# Altium schematic symbol library Nhu-Altium-Schematic-Lin.SchLib: 75 symbols
Pins are listed as number, name and electrical type; pins without a type are passive.

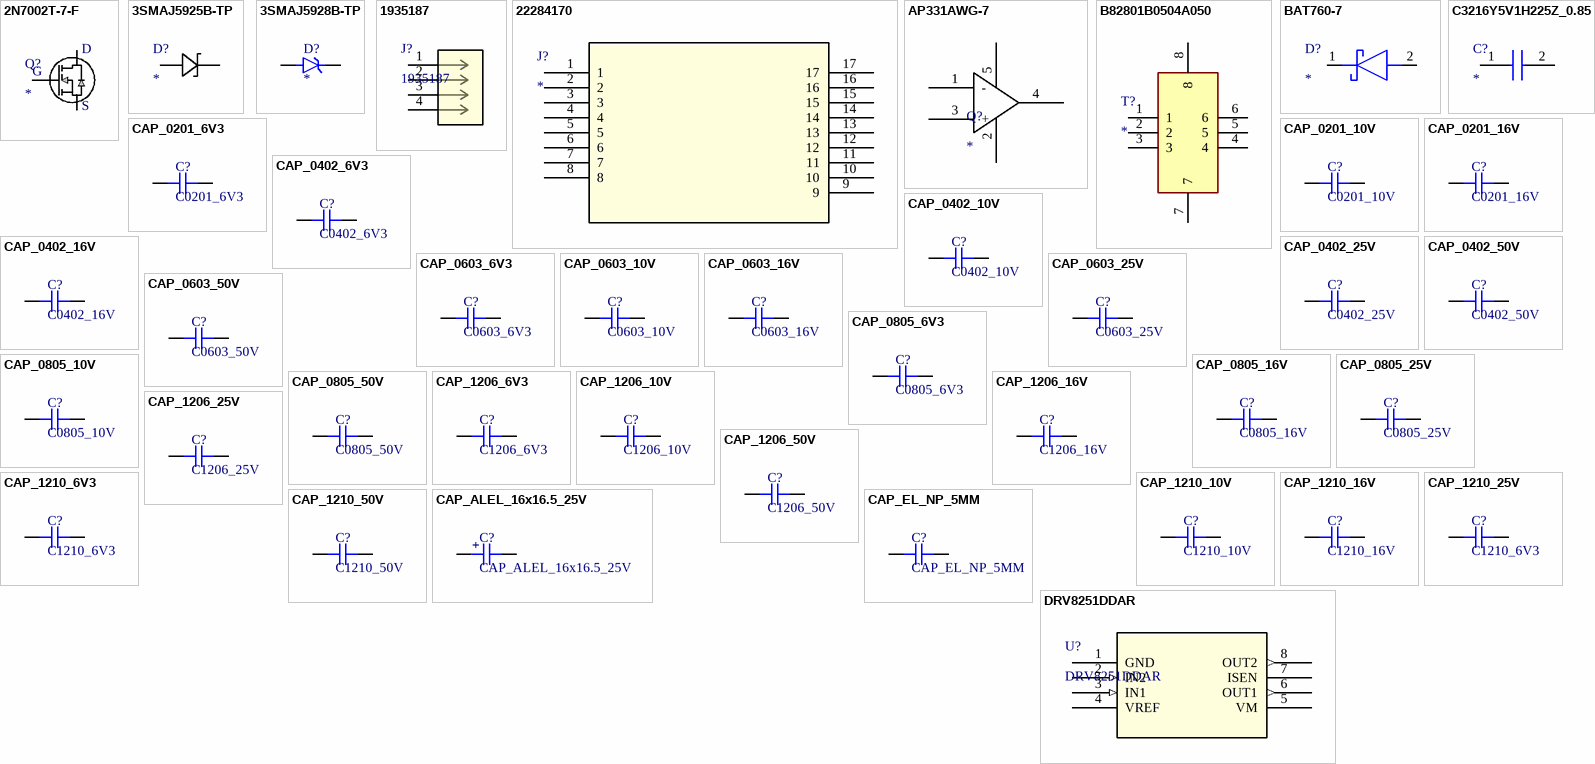
[diagram p0: symbols 2N7002T-7-F to DRV8251DDAR]

## 2N7002T-7-F
designator Q?
Small Signal Field-Effect Transistor, 0.115A I(D), 60V, 1-Element, N-Channel, Silicon, Metal-oxide Semiconductor FET; Manufacturer: ON Semiconductor / Fairchild; Manufacturer Part Number: FDN340P; Package Body Material: Plastic; Polarity/Channel Type: P-CHANNEL; Drain Current-Max (Abs) (ID): 2A; Drain-source On Resistance-Max: 70R; DS Breakdown Voltage-Min: 20V; Number of Elements: 1; Operating Mode: ENHANCEMENT MODE; Power Dissipation-Max (Abs): 500mW; Transistor Application: SWITCHING; Qualification Status: Not Qualified; Additional Feature: HIGH RELIABILITY; Feedback Cap-Max (Crss): 5pF; Time @ Peak Reflow Temperature-Max (s): 40s; Supplier 1: Arrow Electronics; RoHS: Yes; Category: MOSFETs; Stock 1: 946; Pricing 1: 1=0.1191, 10=0.1173, 25=0.1155, 100=0.1137, 250=0.112, 500=0.1102, 1000=0.1084, 3000=0.1066, 6000=0.1048 (USD); Pins: 3; Package Shape: Rectangular; Transistor Element Material: SILICON; Terminal Finish: Tin; Max Operating Temperature: 150°C; Drain Current-Max (ID): 2A; FET Technology: METAL-OXIDE SEMICONDUCTOR; JESD-30 Code: R-PDSO-G3; Moisture Sensitivity Level: 1; Package Style: SMALL OUTLINEMeter; Surface Mount: Yes; Terminal Form: Gull Wing; Terminal Position: DUAL; JESD-609 Code: e3; Reach SVHC Compliant: Yes; RoHS Compliant: Yes; ComponentLink1URL: https://datasheet.ciiva.com:443/pdfs/VipMasterIC/IC/ONSM/ONSM-S-A0003584711/ONSM-S-A0003584686-1.pdf?src-supplier=IHS+Markit; ComponentLink1Description: https://datasheet.ciiva.com:443/pdfs/VipMasterIC/IC/ONSM/ONSM-S-A0003584711/ONSM-S-A0003584686-1.pdf?src-supplier=IHS+Markit; ComponentLink2URL: https://datasheet.ciiva.com/7968/276210-7968140.pdf?src-supplier=Element14; ComponentLink2Description: https://datasheet.ciiva.com/7968/276210-7968140.pdf?src-supplier=Element14; ComponentLink3URL: https://datasheet.ciiva.com/28548/276210-28548189.pdf?src-supplier=Element14; ComponentLink3Description: https://datasheet.ciiva.com/28548/276210-28548189.pdf?src-supplier=Element14; Supplier 2: Future Electronics; Stock 2: 396000; Pricing 2: 3000=0.0523, 9000=0.0503, 15000=0.0494, 45000=0.0476, 75000=0.046 (USD); Peak Reflow Temperature (Cel): 260°C; ComponentLink4URL: https://datasheet.ciiva.com:443/pdfs/VipMasterIC/IC/DIOD/DIOD-S-A0009691157/DIOD-S-A0009831364-1.pdf?src-supplier=IHS+Markit; ComponentLink4Description: https://datasheet.ciiva.com:443/pdfs/VipMasterIC/IC/DIOD/DIOD-S-A0009691157/DIOD-S-A0009831364-1.pdf?src-supplier=IHS+Markit; ComponentLink5URL: https://datasheet.ciiva.com/34302/1538460-34302350.pdf?src-supplier=Jameco; ComponentLink5Description: https://datasheet.ciiva.com/34302/1538460-34302350.pdf?src-supplier=Jameco; ComponentLink6URL: https://datasheet.ciiva.com/3304/ds30301-3304394.pdf?src-supplier=Avnet; ComponentLink6Description: https://datasheet.ciiva.com/3304/ds30301-3304394.pdf?src-supplier=Avnet; ComponentLink7URL: https://datasheet.ciiva.com/17103/2n7002t-7-f-17103286.pdf?src-supplier=Allied+Electronics; ComponentLink7Description: https://datasheet.ciiva.com/17103/2n7002t-7-f-17103286.pdf?src-supplier=Allied+Electronics; ComponentLink8URL: https://datasheet.ciiva.com/1188/ds30301-1188477.pdf?src-supplier=Element14; ComponentLink8Description: https://datasheet.ciiva.com/1188/ds30301-1188477.pdf?src-supplier=Element14; ComponentLink9URL: https://datasheet.ciiva.com/22712/1915455-22712378.pdf?src-supplier=Element14; ComponentLink9Description: https://datasheet.ciiva.com/22712/1915455-22712378.pdf?src-supplier=Element14; ComponentLink10URL: https://datasheet.ciiva.com/3304/ds30301-3304395.pdf?src-supplier=Avnet; ComponentLink10Description: https://datasheet.ciiva.com/3304/ds30301-3304395.pdf?src-supplier=Avnet; ComponentLink11URL: https://datasheet.ciiva.com/16287/ds30301-16287372.pdf?src-supplier=Future+Electronics; ComponentLink11Description: https://datasheet.ciiva.com/16287/ds30301-16287372.pdf?src-supplier=Future+Electronics; ComponentLink12URL: https://datasheet.ciiva.com/15219/getdatasheetpartid-141065-15219671.pdf?src-supplier=Verical; ComponentLink12Description: https://datasheet.ciiva.com/15219/getdatasheetpartid-141065-15219671.pdf?src-supplier=Verical; ComponentLink13URL: https://datasheet.ciiva.com/934/ds30301-934600.pdf?src-supplier=Digi-Key; ComponentLink13Description: https://datasheet.ciiva.com/934/ds30301-934600.pdf?src-supplier=Digi-Key; ComponentLink14URL: https://datasheet.ciiva.com/934/ds30301-934601.pdf?src-supplier=Digi-Key; ComponentLink14Description: https://datasheet.ciiva.com/934/ds30301-934601.pdf?src-supplier=Digi-Key; ComponentLink15URL: https://datasheet.ciiva.com/934/ds30301-934599.pdf?src-supplier=Digi-Key; ComponentLink15Description: https://datasheet.ciiva.com/934/ds30301-934599.pdf?src-supplier=Digi-Key; Supplier Part Number 1: FDN340P; Supplier Part Number 2: 6857122
footprint 2N7002T-7-F
pins: 1 G, 2 S, 3 D

## 3SMAJ5925B-TP
designator D?
No Description Available; Mfr_Name: MCC
footprint 3SMAJ5925B-TP (Footprint not found)
pins: 1 ANODE, 2 CATHODE

## 3SMAJ5928B-TP
designator D?
MF: {'manufacturer': u'Micro Commercial Co'}; MP: 3SMAJ5928B-TP; Package: None; Price: None; Value: *; Availability: Unavailable
footprint 3SMAJ5928B-TP
pins: A, C K

## 1935187
designator J?
No Description Available; Mfr_Name: Phoenix Contact; Copyright: Copyright (C) 2023 Ultra Librarian. All rights reserved.; Manufacturer_Part_Number: 1935187; Digi-Key_Part_Number_1: 277-1579-ND; RefDes: RefDes; Type: DEV
footprint 1935187
pins: 1, 2, 3, 4

## 22284170
designator J?
No Description Available; Mfr_Name: Molex Connector Corporation; RefDes: RefDes; Type: Type
footprint 22284170
pins: 1, 2, 3, 4, 5, 6, 7, 8, 9, 10, 11, 12, 13, 14, 15, 16, 17

## AP331AWG-7
designator Q?
Transistor; Manufacturer_Name: Diodes Inc.; Manufacturer_Part_Number: AP331AWG-7; Datasheet Link: https://www.diodes.com/assets/Datasheets/AP331A.pdf; Height: 1.3mm; Mouser Part Number: 621-AP331AWG-7; Mouser Price/Stock: https://www.mouser.co.uk/ProductDetail/Diodes-Incorporated/AP331AWG-7?qs=oUsD4qhOtFwtG1biEio8Cg%3D%3D; Arrow Part Number: AP331AWG-7; Arrow Price/Stock: https://www.arrow.com/en/products/ap331awg-7/diodes-incorporated?region=nac
footprint AP331AWG-7 (Footprint not found)
pins: 1 -, 2 GND, 3 +, 4 OUT, 5

## B82801B0504A050
designator T?
Transformer; Manufacturer_Name: TDK; Manufacturer_Part_Number: B82801B0504A050; Datasheet Link: https://product.tdk.com/system/files/dam/doc/product/transformer/transformer/current-sense/data_sheet/85/ds/b82801b.pdf; Height: 5.08mm; Mouser Part Number: 871-B82801B504A50; Mouser Price/Stock: https://www.mouser.co.uk/ProductDetail/EPCOS-TDK/B82801B0504A050?qs=Uha62PnlbFB0KmwTvQRwvw%3D%3D
footprint B82801B0504A050
pins: 1, 2, 3, 4, 5, 6, 7, 8

## BAT760-7
designator D?
Schottky Diode; Manufacturer_Name: Diodes Inc.; Manufacturer_Part_Number: BAT760-7; Datasheet Link: https://www.diodes.com/assets/Datasheets/ds30498.pdf; Height: 1.2mm; Mouser Part Number: 621-BAT760-7; Mouser Price/Stock: https://www.mouser.co.uk/ProductDetail/Diodes-Incorporated/BAT760-7?qs=JV7lzlMm3yKDDyO09xoRbQ%3D%3D; Arrow Part Number: BAT760-7; Arrow Price/Stock: https://www.arrow.com/en/products/bat760-7/diodes-incorporated?region=nac
footprint BAT760-7 (Footprint not found)
pins: 1 K, 2 A

## C3216Y5V1H225Z_0.85
designator C?
Capacitor; Manufacturer_Name: TDK; Manufacturer_Part_Number: C3216Y5V1H225Z/0.85; Description: Multilayer Ceramic Capacitors MLCC - SMD/SMT 1206 2.2uF 50V Y5V +80/-20%; Datasheet Link: https://media.digikey.com/pdf/Data%20Sheets/TDK%20PDFs/C_Series_GeneralAppl_B11.pdf; Height: 0.95mm; Mouser Part Number: N/A
footprint C3216Y5V1H225Z_0.85 (Footprint not found)
pins: 1, 2

## CAP_0201_6V3
designator C?, comment C0201_6V3
Capacitor SMD 0201 6V3
footprint CAP_0201
pins: 1, 2

## CAP_0201_10V
designator C?, comment C0201_10V
Capacitor SMD 0201 10V
footprint CAP_0201
pins: 1, 2

## CAP_0201_16V
designator C?, comment C0201_16V
Capacitor SMD 0201 16V
footprint CAP_0201
pins: 1, 2

## CAP_0402_6V3
designator C?, comment C0402_6V3
Capacitor SMD 0402 6V3
footprint CAP_0402
pins: 1, 2

## CAP_0402_10V
designator C?, comment C0402_10V
Capacitor SMD 0402 10V
footprint CAP_0402
pins: 1, 2

## CAP_0402_16V
designator C?, comment C0402_16V
Capacitor SMD 0402 16V
footprint CAP_0402
pins: 1, 2

## CAP_0402_25V
designator C?, comment C0402_25V
Capacitor SMD 0402 25V
footprint CAP_0402
pins: 1, 2

## CAP_0402_50V
designator C?, comment C0402_50V
Capacitor SMD 0402 50V
footprint CAP_0402
pins: 1, 2

## CAP_0603_6V3
designator C?, comment C0603_6V3
Capacitor SMD 0603 6V3
footprint CAP_0603
pins: 1, 2

## CAP_0603_10V
designator C?, comment C0603_10V
Capacitor SMD 0603 10V
footprint CAP_0603
pins: 1, 2

## CAP_0603_16V
designator C?, comment C0603_16V
Capacitor SMD 0603 16V
footprint CAP_0603
pins: 1, 2

## CAP_0603_25V
designator C?, comment C0603_25V
Capacitor SMD 0603 25V
footprint CAP_0603
pins: 1, 2

## CAP_0603_50V
designator C?, comment C0603_50V
Capacitor SMD 0603 50V
footprint CAP_0603
pins: 1, 2

## CAP_0805_6V3
designator C?, comment C0805_6V3
Capacitor SMD 0805 6V3
footprint CAP_0805
pins: 1, 2

## CAP_0805_10V
designator C?, comment C0805_10V
Capacitor SMD 0805 10V
footprint CAP_0805
pins: 1, 2

## CAP_0805_16V
designator C?, comment C0805_16V
Capacitor SMD 0805 16V
footprint CAP_0805
pins: 1, 2

## CAP_0805_25V
designator C?, comment C0805_25V
Capacitor SMD 0805 25V
footprint CAP_0805
pins: 1, 2

## CAP_0805_50V
designator C?, comment C0805_50V
Capacitor SMD 0805 50V
footprint CAP_0805
pins: 1, 2

## CAP_1206_6V3
designator C?, comment C1206_6V3
Capacitor SMD 1206 6V3
footprint CAP_1206
pins: 1, 2

## CAP_1206_10V
designator C?, comment C1206_10V
Capacitor SMD 1206 10V
footprint CAP_1206
pins: 1, 2

## CAP_1206_16V
designator C?, comment C1206_16V
Capacitor SMD 1206 16V
footprint CAP_1206
pins: 1, 2

## CAP_1206_25V
designator C?, comment C1206_25V
Capacitor SMD 1206 25V
footprint CAP_1206
pins: 1, 2

## CAP_1206_50V
designator C?, comment C1206_50V
Capacitor SMD 1206 50V
footprint CAP_1206
pins: 1, 2

## CAP_1210_6V3
designator C?, comment C1210_6V3
Capacitor SMD 1210 6V3
footprint CAP_1210
pins: 1, 2

## CAP_1210_10V
designator C?, comment C1210_10V
Capacitor SMD 1210 10V
footprint CAP_1210
pins: 1, 2

## CAP_1210_16V
designator C?, comment C1210_16V
Capacitor SMD 1210 16V
footprint CAP_1210
pins: 1, 2

## CAP_1210_25V
designator C?, comment C1210_6V3
Capacitor SMD 1210 25V
footprint CAP_1210
pins: 1, 2

## CAP_1210_50V
designator C?, comment C1210_50V
Capacitor SMD 1210 50V
footprint CAP_1210
pins: 1, 2

## CAP_ALEL_16x16.5_25V
designator C?
Capacitor SMD Aluminium Electrolytic 16x16.5mm 25V; Manufacturer: *; Manufacturer Part Number: *
footprint CAP_ALEL_16x16.5 (Aluminum Electrolytic Capacitor, Body 17.00x17.00x17.00mm, IPC Low Density)
pins: 1, 2
text: +

## CAP_EL_NP_5MM
designator C?
Capacitor SMD Electrolytic Non-Polarised 5mm Diameter; Manufacturer: Nichicon; Manufacturer Part Number: *
footprint CAP-EL-NP-5MM
pins: 1, 2

## DRV8251DDAR
designator U?
No Description Available; Mfr_Name: Texas Instruments; Copyright: Copyright (C) 2023 Ultra Librarian. All rights reserved.; Manufacturer_Part_Number: DRV8251DDAR; RefDes: RefDes; Type: DEV
footprint DRV8251DDAR
pins: 1 GND, 2 IN2 (in), 3 IN1 (in), 4 VREF (power), 5 VM (power), 6 OUT1 (out), 7 ISEN (power), 8 OUT2 (out)

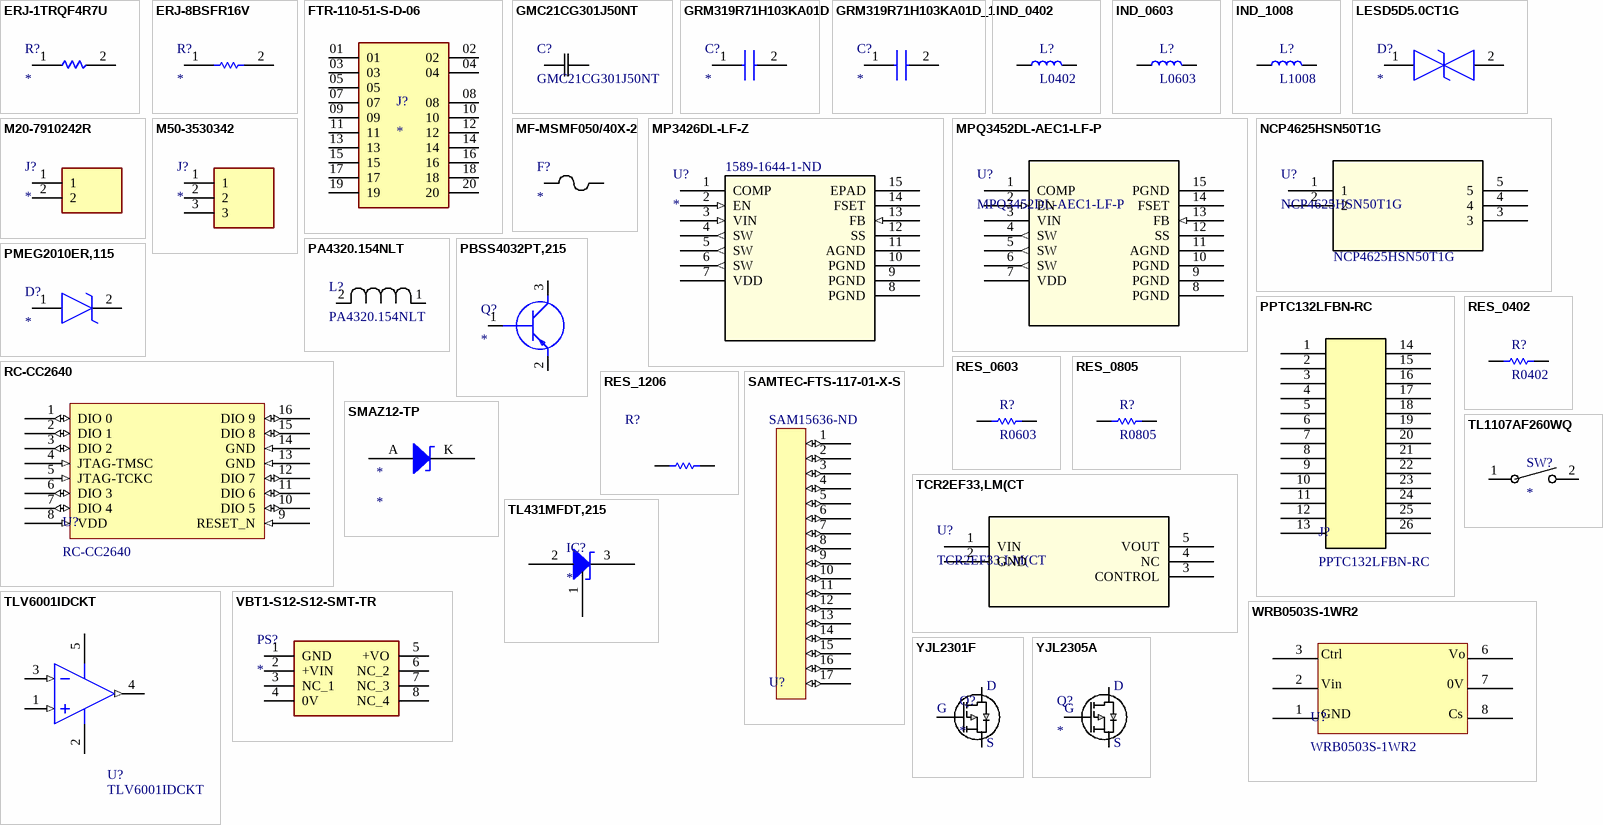
[diagram p1: symbols ERJ-1TRQF4R7U to YJL2305A]

## ERJ-1TRQF4R7U
designator R?
Resistor; Manufacturer_Name: Panasonic; Manufacturer_Part_Number: ERJ-1TRQF4R7U; Description: SMD Current Sense Resistor; Datasheet Link: http://industrial.panasonic.com/cdbs/www-data/pdf/RDN0000/AOA0000C313.pdf; Height: 0.7mm; Mouser Part Number: 667-ERJ-1TRQF4R7U
footprint ERJ-1TRQF4R7U (Footprint not found)
pins: 1, 2

## ERJ-8BSFR16V
designator R?
Resistor; Manufacturer_Name: Panasonic; Manufacturer_Part_Number: ERJ-8BSFR16V; Datasheet Link: http://industrial.panasonic.com/cdbs/www-data/pdf/RDN0000/AOA0000C313.pdf; Mouser Part Number: 667-ERJ-8BSFR16V; Mouser Price/Stock: https://www.mouser.co.uk/ProductDetail/Panasonic/ERJ-8BSFR16V?qs=22lEN67Lqx5wXmxto%252Be%252B6g%3D%3D
footprint ERJ-8BSFR16V
pins: 1, 2

## FTR-110-51-S-D-06
designator J?
MP: FTR-110-51-S-D-06; Price: None; Value: *; Availability: Unavailable; Package: None
footprint FTR-110-51-S-D-06
pins: 01, 02, 03, 04, 05, 07, 08, 09, 10, 11, 12, 13, 14, 15, 16, 17, 18, 19, 20

## GMC21CG301J50NT
designator C?
No Description Available; Mfr_Name: Cal-Chip Electronics; Type: DEV; Copyright: Copyright (C) 2023 Ultra Librarian. All rights reserved.; Manufacturer_Part_Number: GMC21CG301J50NT; RefDes: RefDes
footprint CAP_GMC21_1.40H_CCE
pins: 1, 2

## GRM319R71H103KA01D
designator C?
Capacitor; Manufacturer_Name: Murata Electronics; Manufacturer_Part_Number: GRM319R71H103KA01D; Datasheet Link: http://www.murata.com/~/media/webrenewal/support/library/catalog/products/capacitor/mlcc/c02e.pdf; Height: 0.95mm; Mouser Part Number: 81-GRM319R71H103KA01; Mouser Price/Stock: https://www.mouser.co.uk/ProductDetail/Murata-Electronics/GRM319R71H103KA01D?qs=08Y8fPBudVrSpjDy94KL5Q%3D%3D; Arrow Part Number: GRM319R71H103KA01D; Arrow Price/Stock: https://www.arrow.com/en/products/grm319r71h103ka01d/murata-manufacturing
footprint GRM319R71H103KA01D (Footprint not found)
pins: 1, 2

## GRM319R71H103KA01D_1
designator C?
Capacitor; Manufacturer_Name: Murata Electronics; Manufacturer_Part_Number: GRM319R71H103KA01D; Datasheet Link: http://www.murata.com/~/media/webrenewal/support/library/catalog/products/capacitor/mlcc/c02e.pdf; Height: 0.95mm; Mouser Part Number: 81-GRM319R71H103KA01; Mouser Price/Stock: https://www.mouser.co.uk/ProductDetail/Murata-Electronics/GRM319R71H103KA01D?qs=08Y8fPBudVrSpjDy94KL5Q%3D%3D; Arrow Part Number: GRM319R71H103KA01D; Arrow Price/Stock: https://www.arrow.com/en/products/grm319r71h103ka01d/murata-manufacturing
footprint CAPC3216X95N
pins: 1, 2

## IND_0402
designator L?, comment L0402
Inductor SMD 0402
footprint IND_0402 (Footprint not found)
pins: 1, 2

## IND_0603
designator L?, comment L0603
Inductor SMD 0603
footprint IND_0603 (Footprint not found)
pins: 1, 2

## IND_1008
designator L?, comment L1008
Inductor SMD 1008
footprint IND_1008 (Footprint not found)
pins: 1, 2

## LESD5D5.0CT1G
designator D?
TVS Diode (Bi-directional); Manufacturer_Name: LRC; Manufacturer_Part_Number: LESD5D5.0CT1G; Height: 0.7mm
footprint LESD5D50CT1G
pins: 1, 2

## M20-7910242R
designator J?
Connector; Manufacturer_Name: Harwin; Manufacturer_Part_Number: M20-7910242R; Datasheet Link: https://www.mouser.com/datasheet/2/181/M20-791R-1273555.pdf; Height: 2.5mm; Mouser Part Number: 855-M20-7910242R; Mouser Price/Stock: https://www.mouser.co.uk/ProductDetail/Harwin/M20-7910242R?qs=k41KVqW3ympOgmj181bijA%3D%3D
footprint M20-7910242R
pins: 1, 2

## M50-3530342
designator J?
Connector; Manufacturer_Name: Harwin; Manufacturer_Part_Number: M50-3530342; Datasheet Link: https://cdn.harwin.com/pdfs/M50-353.pdf; Height: 4.3mm; Mouser Part Number: 855-M50-3530342; Mouser Price/Stock: https://www.mouser.co.uk/ProductDetail/Harwin/M50-3530342?qs=%252BdQmOuGyFcFOxjGK%2F4HnAg%3D%3D
footprint M50-3530342
pins: 1, 2, 3

## MF-MSMF050/40X-2
designator F?
PTC Resettable Fuse, 40V, Surface Mount; Mfr_Name: Bourns Electronics; Manufacturer: Bourns; Manufacturer Part Number: MF-MSMF050/40X-2; Supplier 1: Newark; RoHS: Yes; Category: PTC Resettable Fuses; Stock 1: 6791; Pricing 1: 1=0.246, 25=0.246, 50=0.246, 100=0.225, 250=0.225, 500=0.225 (USD); Resistor Type: PTC RESETTABLE FUSE; Reach SVHC Compliant: Yes; RoHS Compliant: Yes; ComponentLink1URL: https://datasheet.ciiva.com:443/pdfs/VipMasterIC/IC/BOUR/BOUR-S-A0007011521/BOUR-S-A0007011521-1.pdf?src-supplier=IHS+Markit; ComponentLink1Description: https://datasheet.ciiva.com:443/pdfs/VipMasterIC/IC/BOUR/BOUR-S-A0007011521/BOUR-S-A0007011521-1.pdf?src-supplier=IHS+Markit; Supplier Part Number 1: 52AC4891
footprint MF-MSMF050/40X-2 (Footprint not found)
pins: 1, 2

## MP3426DL-LF-Z
designator U?  Supplier Part Number 1: 1589-1644-1-ND
Switching Regulator, Current-mode, 630kHz Switching Freq-Max, PDSO14; Mfr_Name: Monolithic Power Systems; Manufacturer Part Number: MP3426DL-LF-Z; Package Body Material: Plastic; Control Technique: PULSE WIDTH MODULATION; Max Input Voltage: 22V; Min Input Voltage: 3.2V; Nominal Input Voltage: 5V; Number of Functions: 1; Switcher Configuration: BOOST; Time @ Peak Reflow Temperature-Max (s): 40s; RefDes: RefDes; Type: Type; Supplier 1: Digi-Key; Manufacturer: Monolithic Power Systems; RoHS: Yes; Category: Voltage Regulators - Switching; Stock 1: 481; Pricing 1: 1=4.49, 10=4.036, 25=3.816, 100=3.3072, 250=3.1376, 500=2.81536, 1000=2.4 (USD); Package Code: HVSON; Number of Pins: 14; Package Shape: Rectangular; Terminal Finish: Tin; Min Operating Temperature: -40°C; Max Operating Temperature: 85°C; JESD-609 Code: e3; Analog IC - Other Type: SWITCHING REGULATOR; Control Mode: CURRENT-MODE; Moisture Sensitivity Level: 1; Package Style: SMALL OUTLINE, HEAT SINK/SLUG, VERY THIN PROFILEMeter; Peak Reflow Temperature (Cel): 260°C; Surface Mount: Yes; Switching Frequency-Max: 630kHz; Terminal Form: No Lead; Terminal Position: DUAL; Length: 4mm; Width: 3mm; Height - Seated (Max): 1mm; Terminal Pitch: 0.5mm; Reach SVHC Compliant: Yes; RoHS Compliant: Yes; Temperature Grade: INDUSTRIAL; ComponentLink1URL: https://datasheet.ciiva.com:443/pdfs/VipMasterIC/IC/MONO/MONO-S-A0009032079/MONO-S-A0009032079-1.pdf?src-supplier=IHS+Markit; ComponentLink1Description: https://datasheet.ciiva.com:443/pdfs/VipMasterIC/IC/MONO/MONO-S-A0009032079/MONO-S-A0009032079-1.pdf?src-supplier=IHS+Markit; ComponentLink2URL: http://www.mouser.com/ds/2/277/MP3426_r1.11-371611.pdf?src-supplier=Mouser; ComponentLink2Description: http://www.mouser.com/ds/2/277/MP3426_r1.11-371611.pdf?src-supplier=Mouser; ComponentLink3URL: https://www.monolithicpower.com/pub/media/document/MP3426_r1.11.pdf?src-supplier=Digi-Key; ComponentLink3Description: https://www.monolithicpower.com/pub/media/document/MP3426_r1.11.pdf?src-supplier=Digi-Key; ComponentLink4URL: http://www.monolithicpower.com/DesktopModules/DocumentManage/API/Document/getDocument?id=896&src-supplier=Digi-Key; ComponentLink4Description: http://www.monolithicpower.com/DesktopModules/DocumentManage/API/Document/getDocument?id=896&src-supplier=Digi-Key; ComponentLink5URL: https://www.monolithicpower.com/Page/DownLoad.aspx?ListID=5ef183e9-1065-446e-b3af-7c4794c517db&&ItemID=23&src-supplier=Avnet; ComponentLink5Description: https://www.monolithicpower.com/Page/DownLoad.aspx?ListID=5ef183e9-1065-446e-b3af-7c4794c517db&&ItemID=23&src-supplier=Avnet
footprint MP3426DL-LF-Z
pins: 1 COMP, 2 EN (in), 3 VIN (in), 4 SW (out), 5 SW (out), 6 SW (out), 7 VDD (power), 8 PGND (power), 9 PGND (power), 10 PGND (power), 11 AGND (power), 12 SS, 13 FB (in), 14 FSET, 15 EPAD

## MPQ3452DL-AEC1-LF-P
designator U?
No Description Available; Mfr_Name: Monolithic Power Systems; Copyright: Copyright (C) 2022 Ultra Librarian. All rights reserved.; Manufacturer_Part_Number: MPQ3452DL-AEC1-LF-P; RefDes: RefDes; Type: DEV
footprint MPQ3452DL-AEC1-LF-P
pins: 1 COMP, 2 EN (in), 3 VIN (power), 4 SW (out), 5 SW (out), 6 SW (out), 7 VDD (power), 8 PGND (power), 9 PGND (power), 10 PGND (power), 11 AGND (power), 12 SS, 13 FB (in), 14 FSET, 15 PGND (power)

## NCP4625HSN50T1G
designator U?
Fixed Positive LDO Regulator, 5V, 0.75V Dropout, PDSO5; Mfr_Name: onsemi; Manufacturer: ON Semiconductor; Package Body Material: Plastic; Regulator Type: ADJUSTABLE POSITIVE SINGLE OUTPUT LDO REGULATOR; Qualification Status: Not Qualified; Copyright: Copyright (C) 2023 Ultra Librarian. All rights reserved.; Manufacturer_Part_Number: NCP4625HSN50T1G; RefDes: RefDes; Type: DEV; Supplier 1: Arrow Electronics; Manufacturer Part Number: NCP4625HSN50T1G; RoHS: Yes; Category: Voltage Regulators - Linear; Stock 1: 33; Pricing 1: 1=0.34940, 10=0.32670, 25=0.32180 (USD); Number of Pins: 5; Package Shape: Rectangular; Terminal Finish: Tin; JESD-609 Code: e3; JESD-30 Code: R-PDSO-G5; Moisture Sensitivity Level: 1; Package Style: SMALL OUTLINEMeter; Surface Mount: Yes; Terminal Form: Gull Wing; Terminal Position: DUAL; Reach SVHC Compliant: Yes; RoHS Compliant: Yes; ComponentLink1URL: https://datasheet.ciiva.com:443/pdfs/VipMasterIC/IC/ONSM/ONSMS21698/ONSMS21698-1.pdf?src-supplier=IHS+Markit; ComponentLink1Description: https://datasheet.ciiva.com:443/pdfs/VipMasterIC/IC/ONSM/ONSMS21698/ONSMS21698-1.pdf?src-supplier=IHS+Markit; ComponentLink2URL: https://datasheet.ciiva.com/8231/ncp4625-d-8231200.pdf?src-supplier=Avnet; ComponentLink2Description: https://datasheet.ciiva.com/8231/ncp4625-d-8231200.pdf?src-supplier=Avnet; ComponentLink3URL: https://datasheet.ciiva.com/2049/ncp4625-d-2049630.pdf?src-supplier=Digi-Key; ComponentLink3Description: https://datasheet.ciiva.com/2049/ncp4625-d-2049630.pdf?src-supplier=Digi-Key; ComponentLink4URL: https://datasheet.ciiva.com/2049/ncp4625-d-2049631.pdf?src-supplier=Digi-Key; ComponentLink4Description: https://datasheet.ciiva.com/2049/ncp4625-d-2049631.pdf?src-supplier=Digi-Key; ComponentLink5URL: https://datasheet.ciiva.com/2049/ncp4625-d-2049632.pdf?src-supplier=Digi-Key; ComponentLink5Description: https://datasheet.ciiva.com/2049/ncp4625-d-2049632.pdf?src-supplier=Digi-Key; Supplier Part Number 1: NCP4625HSN50T1G
footprint NCP4625HSN50T1G
pins: 1, 2, 3, 4, 5

## PA4320.154NLT
designator L?
No Description Available; Mfr_Name: Pulse Electronics Corporation; Type: DEV; Copyright: Copyright (C) 2023 Ultra Librarian. All rights reserved.; Manufacturer_Part_Number: PA4320.154NLT; RefDes: RefDes
footprint PA4320.154NLT
pins: 1, 2

## PBSS4032PT,215
designator Q?
Transistor BJT PNP; Manufacturer_Name: Nexperia; Manufacturer_Part_Number: PBSS4032PT,215; Datasheet Link: https://assets.nexperia.com/documents/data-sheet/PBSS4032PT.pdf; Height: 1.1mm; Mouser Part Number: 771-PBSS4032PT215; Mouser Price/Stock: https://www.mouser.co.uk/ProductDetail/Nexperia/PBSS4032PT215?qs=5DYmZrWuUErjmhvQ25e5Aw%3D%3D; Arrow Part Number: PBSS4032PT,215; Arrow Price/Stock: https://www.arrow.com/en/products/pbss4032pt215/nexperia?region=nac
footprint PBSS4032PT,215
pins: 1 B, 2 E, 3 C

## PMEG2010ER,115
designator D?
DIODE SCHOTTKY 20V 1A SOD123W; Manufacturer: Nexperia; Manufacturer Part Number: PMEG2010ER,115; Package Body Material: Plastic; Diode Element Material: SILICON; Diode Type: RECTIFIER; Number of Elements: 1; Max Power Dissipation: 570mW; Time @ Peak Reflow Temperature-Max (s): 30s; Reference Standard: AEC-Q101; Supplier 1: Future Electronics; RoHS: Yes; Category: Rectifier Diodes; Stock 1: 417000; Pricing 1: 3000=0.0658, 9000=0.0633, 15000=0.0621, 30000=0.0606, 60000=0.0583 (USD); Pins: 2; Package Shape: Rectangular; Terminal Finish: Tin; Min Operating Temperature: -55°C; Max Operating Temperature: 150°C; JESD-609 Code: e3; Package Style: SMALL OUTLINEMeter; JESD-30 Code: R-PDSO-F2; Moisture Sensitivity Level: 1; Surface Mount: Yes; Technology: SCHOTTKY; Terminal Form: Flat; Terminal Position: DUAL; Peak Reflow Temperature (Cel): 260°C; Rep Pk Reverse Voltage-Max: 20V; RoHS Compliant: Yes; Reach SVHC Compliant: No; ComponentLink1URL: https://datasheet.ciiva.com:443/pdfs/VipMasterIC/IC/NEXP/NEXP-S-A0002907121/NEXP-S-A0002907121-1.pdf?src-supplier=IHS+Markit; ComponentLink1Description: https://datasheet.ciiva.com:443/pdfs/VipMasterIC/IC/NEXP/NEXP-S-A0002907121/NEXP-S-A0002907121-1.pdf?src-supplier=IHS+Markit; ComponentLink2URL: http://www.farnell.com/datasheets/1383341.pdf?src-supplier=Farnell; ComponentLink2Description: http://www.farnell.com/datasheets/1383341.pdf?src-supplier=Farnell; ComponentLink3URL: http://www.farnell.com/datasheets/1383341.pdf?src-supplier=Element14; ComponentLink3Description: http://www.farnell.com/datasheets/1383341.pdf?src-supplier=Element14; Supplier Part Number 1: 7040635
footprint PMEG2010ER,115
pins: 1, 2

## PPTC132LFBN-RC
designator J?
footprint PPTC132LFBN-RC (CONN HDR 26POS 0.1 TIN PCB)
pins: 1 (oc), 2, 3, 4, 5, 6, 7, 8, 9, 10, 11, 12, 13, 14, 15, 16, 17, 18, 19, 20, 21, 22, 23, 24, 25, 26

## RC-CC2640
designator U?
footprint RC-CC2640 (Bluetooth v4.2 Bluetooth v5.0 Transceiver Module)
pins: 1 DIO 0 (io), 2 DIO 1 (io), 3 DIO 2 (io), 4 JTAG-TMSC (in), 5 JTAG-TCKC (in), 6 DIO 3 (io), 7 DIO 4 (io), 8 VDD (in), 9 RESET_N (in), 10 DIO 5 (io), 11 DIO 6 (io), 12 DIO 7 (io), 13 GND (in), 14 GND (in), 15 DIO 8 (io), 16 DIO 9 (io)

## RES_0402
designator R?, comment R0402
Resistor SMD 0402; Manufacturer: *; Manufacturer Part Number: *; Distributor Link: *
footprint RES_0402
pins: 1, 2

## RES_0603
designator R?, comment R0603
Resistor SMD 0603; Manufacturer: *; Manufacturer Part Number: *; Distributor Link: *
footprint RES_0603
pins: 1, 2

## RES_0805
designator R?, comment R0805
Resistor SMD 0805; Manufacturer: *; Manufacturer Part Number: *; Distributor Link: *
footprint RES_0805
pins: 1, 2

## RES_1206
designator R?  (value not drawn)
Generic Resistor SMD 1206; Resistance: *Ω
footprint RES_1206 (Chip Resistor SMD 1206)
pins: 1, 2
1 alternate drawing of the same symbol

## SAMTEC-FTS-117-01-X-S
designator U?  Supplier Part Number 1: SAM15636-ND  (hidden comment: *)
Board Connector, 17 Contact(s), 1 Row(s), Male, Straight, Solder Terminal; Manufacturer: Samtec; Manufacturer Part Number: FTS-117-01-F-S; Manufacturer Series: FTS; Option: General Purpose; Additional Feature: Low Profile; Filter Feature: No; Number of Rows Loaded: 1; Number of Contacts: 17; Supplier 1: Digi-Key; RoHS: Yes; Category: Connectors; Stock 1: 137; Pricing 1: 1=3.71, 10=3.37, 100=2.9694, 500=2.524, 1000=2.15282, 5000=1.93011 (USD); Mounting Technology: Board; Contact Material: Bronze; Contact Finish - Mating: GOLD (3) OVER NICKEL (50); Contact Finish - Termination: Matte Tin (Sn) - with Nickel (Ni) barrier; Connector Type: BOARD CONNECTOR; JESD-609 Code: e3; Contact Gender: Male; Mixed Contacts: No; Mounting Style: STRAIGHT; Termination: Solder; Terminal Pitch: 1.27mm; Flammability Rating: UL94 V-0; DIN Conformance: No; IEC Conformance: No; MIL Conformance: No; Reach SVHC Compliant: Yes; RoHS Compliant: Yes; ComponentLink1URL: https://datasheet.ciiva.com:443/pdfs/VipMasterIC/IC/SAMI/SAMI-S-A0001504673/SAMI-S-A0001504673-1.pdf?src-supplier=IHS+Markit; ComponentLink1Description: https://datasheet.ciiva.com:443/pdfs/VipMasterIC/IC/SAMI/SAMI-S-A0001504673/SAMI-S-A0001504673-1.pdf?src-supplier=IHS+Markit; ComponentLink2URL: http://www.farnell.com/datasheets/2045594.pdf?src-supplier=Farnell; ComponentLink2Description: http://www.farnell.com/datasheets/2045594.pdf?src-supplier=Farnell; ComponentLink3URL: ftp://ftp.samtec.com/webfiles/PDF/FTS.PDF?src-supplier=Avnet; ComponentLink3Description: ftp://ftp.samtec.com/webfiles/PDF/FTS.PDF?src-supplier=Avnet
footprint SAMTEC-FTS-117-01-X-S
pins: 1 (io), 2 (io), 3 (io), 4 (io), 5 (io), 6 (io), 7 (io), 8 (io), 9 (io), 10 (io), 11 (io), 12 (io), 13 (io), 14 (io), 15 (io), 16 (io), 17 (io)

## SMAZ12-TP
designator *
footprint SMAZ12-TP
pins: A, K

## TCR2EF33,LM(CT
designator U?
No Description Available; Mfr_Name: Toshiba Electronic Devices & Storage Corp.; Copyright: Copyright (C) 2023 Ultra Librarian. All rights reserved.; Manufacturer_Part_Number: TCR2EF33,LM(CT; RefDes: RefDes; Type: DEV
footprint TCR2EF33,LM_CT
pins: 1 VIN (power), 2 GND, 3 CONTROL, 4 NC, 5 VOUT (power)

## TL431MFDT,215
designator IC?
Integrated Circuit; Manufacturer_Name: Nexperia; Manufacturer_Part_Number: TL431MFDT,215; Datasheet Link: https://assets.nexperia.com/documents/data-sheet/TL431_FAM.pdf; Height: 1.1mm; Mouser Part Number: 771-TL431MFDT215; Mouser Price/Stock: https://www.mouser.co.uk/ProductDetail/Nexperia/TL431MFDT215?qs=A1cBxND5mHKvFzVl3lBdcQ%3D%3D; Arrow Part Number: TL431MFDT,215; Arrow Price/Stock: https://www.arrow.com/en/products/tl431mfdt215/nexperia
footprint TL431MFDT,215
pins: 1, 2, 3

## TL1107AF260WQ
designator SW?
No Description Available; Mfr_Name: E-Switch
footprint TL1107AF260WQ
pins: 1, 2

## TLV6001IDCKT
designator U?
IC OPAMP GP 1 CIRCUIT SC70-5; Manufacturer: Texas Instruments; Package Body Material: Plastic; Amplifier Type: OPERATIONAL AMPLIFIER; Common-mode Reject Ratio-Nom: 76dB; Input Offset Voltage-Max: 4.5mV; Neg Supply Voltage Limit-Max: -3.5V; Number of Functions: 1; Slew Rate: 0.5V/µs; Supply Voltage Limit-Max: 3.5V; Unity Gain BW-Nom: 1MHz; Supplier 1: Mouser; Manufacturer Part Number: TLV6001IDCKT; RoHS: Yes; Category: Amplifiers - Op Amps, Buffer, Instrumentation; Stock 1: 402; Pricing 1: 1=1.14000, 10=1.03000, 25=0.97700, 50=0.97700, 100=0.80300, 250=0.74900, 1000=0.74900, 10000=0.74900 (USD); Package Code: TSSOP; Number of Pins: 5; Package Shape: Rectangular; Terminal Finish: Nickel; Min Operating Temperature: -40°C; Max Operating Temperature: 125°C; JESD-609 Code: e4; JESD-30 Code: R-PDSO-G5; Moisture Sensitivity Level: 1; Package Style: SMALL OUTLINE, THIN PROFILE, SHRINK PITCHMeter; Surface Mount: Yes; Terminal Form: Gull Wing; Terminal Position: DUAL; Length: 2mm; Width: 1.25mm; Height - Seated (Max): 1.1mm; Terminal Pitch: 0.65mm; Temperature Grade: AUTOMOTIVE; Reach SVHC Compliant: Yes; RoHS Compliant: Yes; ComponentLink1URL: https://www.ti.com:443/lit/ds/symlink/tlv6001.pdf?src-supplier=IHS+Markit; ComponentLink1Description: https://www.ti.com:443/lit/ds/symlink/tlv6001.pdf?src-supplier=IHS+Markit; ComponentLink2URL: http://www.ti.com/lit/ds/symlink/tlv6001.pdf?src-supplier=Digi-Key; ComponentLink2Description: http://www.ti.com/lit/ds/symlink/tlv6001.pdf?src-supplier=Digi-Key; ComponentLink3URL: http://www.ti.com/general/docs/lit/getliterature.tsp?genericPartNumber=TLV6001&fileType=pdf&src-supplier=Farnell; ComponentLink3Description: http://www.ti.com/general/docs/lit/getliterature.tsp?genericPartNumber=TLV6001&fileType=pdf&src-supplier=Farnell; ComponentLink4URL: http://www.farnell.com/datasheets/2075790.pdf?src-supplier=Element14; ComponentLink4Description: http://www.farnell.com/datasheets/2075790.pdf?src-supplier=Element14; Supplier Part Number 1: 595-TLV6001IDCKT
footprint TLV6001IDCKT
pins: 1 IN+ (in), 2 V- (power), 3 IN- (in), 4 OUT (out), 5 V+ (power)

## VBT1-S12-S12-SMT-TR
designator PS?
Power Supply; Manufacturer_Name: CUI Devices; Manufacturer_Part_Number: VBT1-S12-S12-SMT-TR; Datasheet Link: http://datasheet.octopart.com/VBT1-S12-S12-SMT-CUI-datasheet-9374.pdf; Height: 6.4mm; Mouser Part Number: 490-VBT1S12S12SMTTR; Mouser Price/Stock: https://www.mouser.co.uk/ProductDetail/CUI-Inc/VBT1-S12-S12-SMT-TR?qs=WyjlAZoYn50RsIb7P6oxZQ%3D%3D
footprint VBT1-S12-S12-SMT-TR (Footprint not found)
pins: 1 GND, 2 +VIN, 3 NC_1, 4 0V, 5 +VO, 6 NC_2, 7 NC_3, 8 NC_4

## WRB0503S-1WR2
designator U?
solated Module DC DC Converter 1 Output 3.3V 303mA 4.5V - 9V Input
footprint WRB0503S-1WR2
pins: 1, 2, 3, 6, 7, 8
text: Ctrl; Vo; Vin; 0V; GND; Cs

## YJL2301F
designator Q?
Manufacturer: Yangjie Electronic Technology; Manufacturer Part Number: YJL2301F-F2-0000HF; Supplier 1: Digi-Key; RoHS: No; Supplier Part Number 1: 3191-YJL2301F-F2-0000HFCT-ND
footprint YJL2301F (Footprint not found)
pins: 1 G, 2 S, 3 D

## YJL2305A
designator Q?
No Description Available; Mfr_Name: Yangjie Electronic Technology
footprint YJL2301F (Footprint not found)
pins: 1 G, 2 S, 3 D